# Altium footprint library 629104190121.PcbLib: 1 footprints
Each footprint in its own frame and in the unit in brackets; x right, y up, seen from the top. Pads: shape width x height; smd on the part's side, far side on the other; paste and mask are expansions set on the pad; w line width, h text height; cw(c..) or ccw(c..) is an arc to the next point about the centre after c.
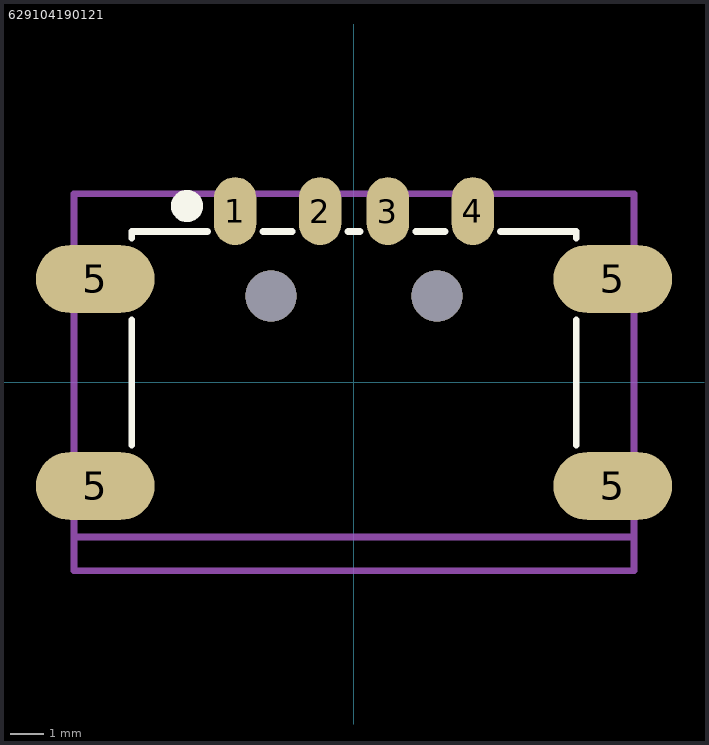
[diagram p0: the footprint, top view; thin cyan lines are the x and y axes]

## 629104190121 [mm]
pads (8):
  oval 1.25x2 smd mask+0: 1(-3.5,5.045) 4(3.5,5.045)
  oval 1.25x2 smd mask+0.05: 2(-1,5.045) 3(1,5.045)
  oval 3.5x2 smd mask+0: 5(-7.625,-3.055) 5(-7.625,3.045) 5(7.625,-3.055) 5(7.625,3.045)
via 2.45,2.545 diameter 1.5 hole 1.5
via -2.45,2.545 diameter 1.5 hole 1.5
Top Overlay:
  circle w0.5: c-4.924,5.195 r0.224
  lines w0.2: -6.55,-1.855 -6.55,1.845 ; -6.55,4.245 -6.55,4.445 -4.32,4.445 ; -2.68,4.445 -1.82,4.445 ; -0.18,4.445 0.18,4.445 ; 1.82,4.445 2.68,4.445 ; 4.32,4.445 6.55,4.445 6.55,4.245 ; 6.55,-1.855 6.55,1.845
Mechanical 14:
  lines w0.2: -8.25,-5.555 8.25,-5.555 8.25,5.555 -8.25,5.555 -8.25,-5.555
Mechanical 15:
  lines w0.2: -8.25,-4.555 8.25,-4.555
  text "PCB Edge" at -2,-4.155 h1
3D body "STEP-629104190121-rev1.stp": height 6.37, standoff -0.1, extent -8.25,-5.555 8.25,5.554